# EAGLE library part LTC3490 (library Synapseware)
Single Cell 350mA LED Driver
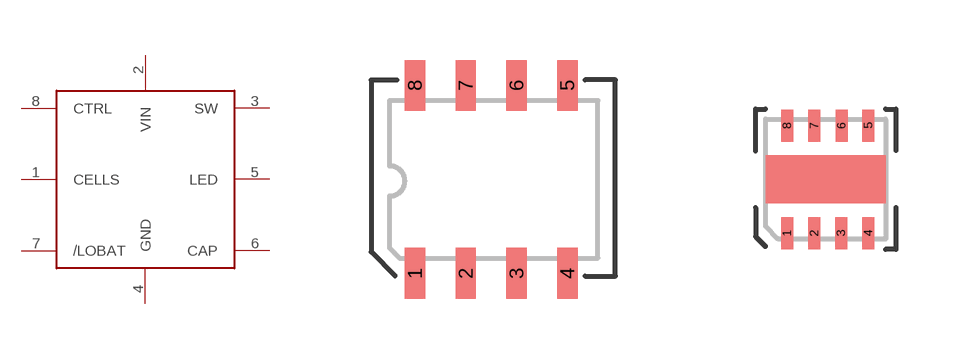
[diagram p21: symbol with the pads of NSOIC-8; footprints NSOIC-8, DFN-8]

Designator prefix -

## LTC3490NSOIC-8  [NSOIC-8]
1  CELLS
2  VIN
3  SW
4  GND
5  LED
6  CAP
7  /LOBAT
8  CTRL

## LTC3490DFN-8  [DFN-8]
Pads as for NSOIC-8

## LTC3490SOIC-8  [SOIC-8]
Pads as for NSOIC-8

## Footprint NSOIC-8 (pad centres in mm)
S8 Package: Narrow 8-Lead Plastic Small Outline
smd 0.508 x 1.27: 1 -1.951,-2.24; 2 -0.681,-2.24; 3 0.589,-2.24; 4 1.859,-2.24; 5 1.859,2.459; 6 0.589,2.459; 7 -0.681,2.459; 8 -1.951,2.459

## Footprint DFN-8 (pad centres in mm)
smd 0.3 x 0.8: 1 -0.93,-1.38; 2 -0.25,-1.38; 3 0.42,-1.38; 4 1.1,-1.38; 5 1.1,1.31; 6 0.43,1.31; 7 -0.25,1.31; 8 -0.93,1.31

## Footprint SOIC-8 (pad centres in mm)
SOIC-8 (8S1)
smd 0.508 x 1.27: 1 0.381,-0.254; 2 1.651,-0.254; 3 2.921,-0.254; 4 4.191,-0.254; 5 4.191,4.445; 6 2.921,4.445; 7 1.651,4.445; 8 0.381,4.445